# Altium footprint library PcbLib1.PcbLib: 1 footprints
Each footprint in its own frame and in the unit in brackets; x right, y up, seen from the top. Pads: shape width x height; smd on the part's side, far side on the other; paste and mask are expansions set on the pad; w line width, h text height; cw(c..) or ccw(c..) is an arc to the next point about the centre after c.
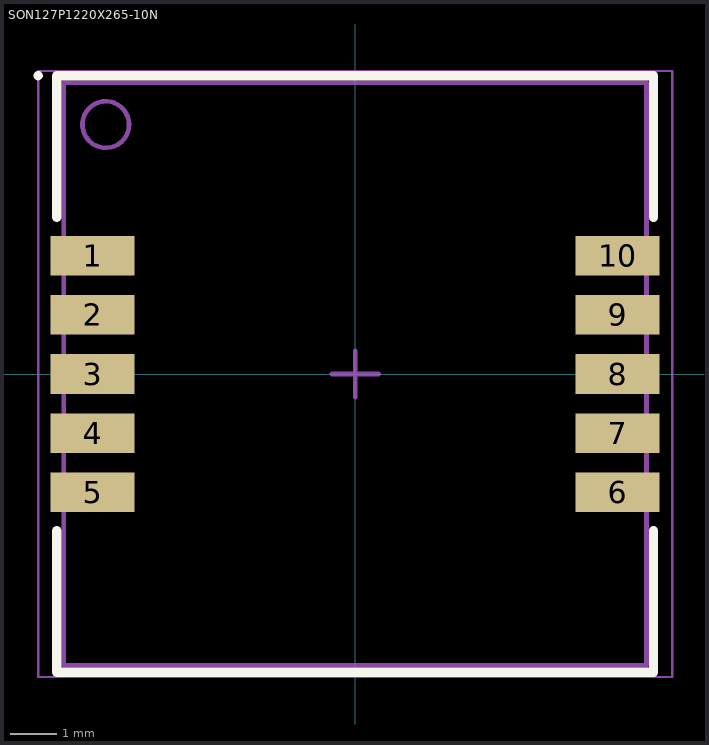
[diagram p0: the footprint, top view; thin cyan lines are the x and y axes]

## SON127P1220X265-10N [mm] "SON, 10-Leads, Body 12.25x12.25mm, Pitch 1.27mm, IPC Medium Density"
height 2.65
pads (10):
  rect 1.8x0.85 smd: 1(-5.63,2.54) 2(-5.63,1.27) 3(-5.63,0) 4(-5.63,-1.27) 5(-5.63,-2.54) 6(5.63,-2.54) 7(5.63,-1.27) 8(5.63,0) 9(5.63,1.27) 10(5.63,2.54)
Top Overlay:
  circle w0.1: c-6.8,6.4 r0.05
  lines w0.2: -6.4,-3.365 -6.4,-6.4 6.4,-6.4 6.4,-3.365 ; -6.4,3.365 -6.4,6.4 6.4,6.4 6.4,3.365
Mechanical 13:
  circle w0.1: c-5.35,5.35 r0.5
  lines w0.1: -6.25,-6.25 6.25,-6.25 6.25,6.25 -6.25,6.25 -6.25,-6.25
Mechanical 15:
  lines w0.05: -6.8,-6.5 6.8,-6.5 6.8,6.5 -6.8,6.5 -6.8,-6.5
  lines w0.1: -0.5,0 0.5,0 ; 0,-0.5 0,0.5
3D body: height 2.65, standoff 0.1, extent -6.25,-6.25 6.25,6.25